# EAGLE library part HD44780LCD (library adafruit_AT4004)
HD44780 LCD Standard character type LCDs, available in sizes from 8x1 to 40x4!
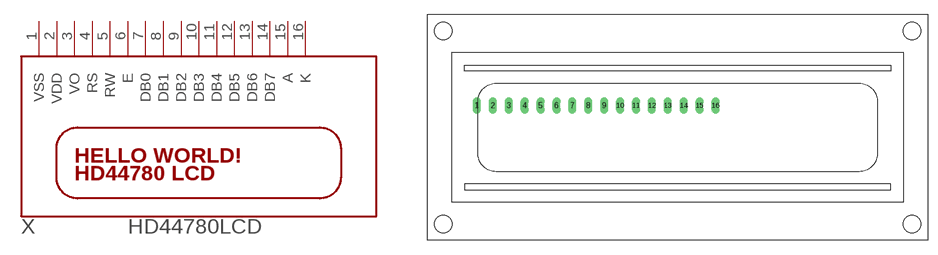
[diagram p58: symbol with the pads of LCD1602; footprint LCD1602]

Designator prefix X

## HD44780LCD-1602  [LCD1602]
1  VSS  sup
2  VDD  sup
3  VO  in
4  RS  in
5  RW  in
6  E  in
7  DB0
8  DB1
9  DB2
10  DB3
11  DB4
12  DB5
13  DB6
14  DB7
15  A  in
16  K  in

## Footprint LCD1602 (pad centres in mm)
drill 0.8 long: 1 7.949,21.5; 2 10.489,21.5; 3 13.029,21.5; 4 15.569,21.5; 5 18.109,21.5; 6 20.649,21.5; 7 23.189,21.5; 8 25.729,21.5; 9 28.269,21.5; 10 30.809,21.5; 11 33.349,21.5; 12 35.889,21.5; 13 38.429,21.5; 14 40.969,21.5; 15 43.509,21.5; 16 46.049,21.5
hole 2.8 at 2.54,2.54
hole 2.8 at 2.54,33.46
hole 2.8 at 77.46,33.46
hole 2.8 at 77.46,2.54